# Altium footprint library CH340X.PcbLib: 1 footprints
Each footprint in its own frame and in the unit in brackets; x right, y up, seen from the top. Pads: shape width x height; smd on the part's side, far side on the other; paste and mask are expansions set on the pad; w line width, h text height; cw(c..) or ccw(c..) is an arc to the next point about the centre after c.
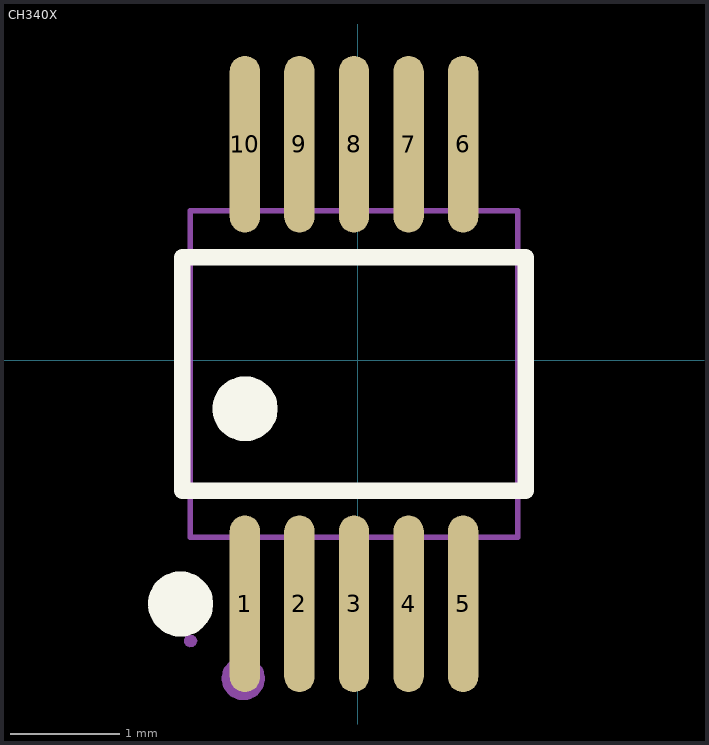
[diagram p0: the footprint, top view; thin cyan lines are the x and y axes]

## CH340X [mil]
pads (10):
  oval 11x63.8 smd: 1(-40.8,-88.1) 2(-21.1,-88.1) 3(-1.4,-88.1) 4(18.3,-88.1) 5(38,-88.1) 6(38,78) 7(18.3,78) 8(-1.4,78) 9(-21.1,78) 10(-40.8,78)
Top Overlay:
  lines w6: -63.5,-47.2 60.7,-47.2 60.7,37.1 -63.5,37.1 -63.5,-47.2
  lines w11.8: -70,-88.1 -69.6,-86.1 -68.6,-84.3 -67,-83 -65.1,-82.3 -63.1,-82.3 -61.1,-83 -59.6,-84.3 -58.5,-86.1 -58.2,-88.1 -58.5,-90.1 -59.6,-91.9 -61.1,-93.2 -63.1,-93.9 -65.1,-93.9 -67,-93.2 -68.6,-91.9 -69.6,-90.1 -70,-88.1 ; -46.7,-17.6 -46.3,-15.6 -45.3,-13.8 -43.7,-12.5 -41.8,-11.8 -39.7,-11.8 -37.8,-12.5 -36.2,-13.8 -35.2,-15.6 -34.9,-17.6 -35.2,-19.6 -36.2,-21.4 -37.8,-22.7 -39.7,-23.4 -41.8,-23.4 -43.7,-22.7 -45.3,-21.4 -46.3,-19.6 -46.7,-17.6
Mechanical 2:
  lines w7.9: -45.3,-115 -44.9,-113.3 -43.9,-112 -42.3,-111.2 -40.5,-111.2 -38.9,-112 -37.9,-113.3 -37.5,-115 -37.9,-116.7 -38.9,-118.1 -40.5,-118.9 -42.3,-118.9 -43.9,-118.1 -44.9,-116.7 -45.3,-115
Mechanical 6:
  lines w2: -60.5,-64.1 57.7,-64.1 57.7,54 -60.5,54 -60.5,-64.1
Mechanical 7:
  region: 33.5,70.2 33.5,53.6 42.4,53.6 42.4,70.2
  region: 13.9,70.2 13.9,53.6 22.7,53.6 22.7,70.2
  region: -5.8,70.2 -5.8,53.6 3,53.6 3,70.2
  region: -25.5,70.2 -25.5,53.6 -16.7,53.6 -16.7,70.2
  region: -45.2,70.2 -45.2,53.6 -36.3,53.6 -36.3,70.2
  region: 33.5,-80.2 33.5,-63.7 42.4,-63.7 42.4,-80.2
  region: 13.9,-80.2 13.9,-63.7 22.7,-63.7 22.7,-80.2
  region: -5.8,-80.2 -5.8,-63.7 3,-63.7 3,-80.2
  region: -25.5,-80.2 -25.5,-63.7 -16.7,-63.7 -16.7,-80.2
  region: -45.2,-80.2 -45.2,-63.7 -36.3,-63.7 -36.3,-80.2
Mechanical 8:
  region: -58.1,-101.5 -58.5,-102.8 -59.5,-103.6 -60.8,-103.8 -62,-103.3 -62.7,-102.2 -62.7,-100.8 -62,-99.7 -60.8,-99.2 -59.5,-99.4 -58.5,-100.2
Mechanical 9:
  region: 33.5,91.4 33.5,69.8 42.4,69.8 42.4,91.4
  region: 13.9,91.4 13.9,69.8 22.7,69.8 22.7,91.4
  region: -5.8,91.4 -5.8,69.8 3,69.8 3,91.4
  region: -25.5,91.4 -25.5,69.8 -16.7,69.8 -16.7,91.4
  region: -45.2,91.4 -45.2,69.8 -36.3,69.8 -36.3,91.4
  region: 33.5,-101.5 33.5,-79.8 42.4,-79.8 42.4,-101.5
  region: 13.9,-101.5 13.9,-79.8 22.7,-79.8 22.7,-101.5
  region: -5.8,-101.5 -5.8,-79.8 3,-79.8 3,-101.5
  region: -25.5,-101.5 -25.5,-79.8 -16.7,-79.8 -16.7,-101.5
  region: -45.2,-101.5 -45.2,-79.8 -36.3,-79.8 -36.3,-101.5